# Altium schematic symbol library FPGA-ShowBoard-SchLib.SchLib: 1 symbol
Pins are listed as number, name and electrical type; pins without a type are passive.

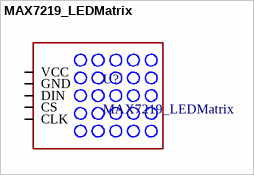
[diagram p0: symbol MAX7219_LEDMatrix]

## MAX7219_LEDMatrix
designator U?
LED MATRIX; Parameter 1: *
pins: 1 VCC, 2 GND, 3 DIN, 4 CS, 5 CLK